# EAGLE library part RJ45 (library dpx-con-CUSTOM)
AMP connector
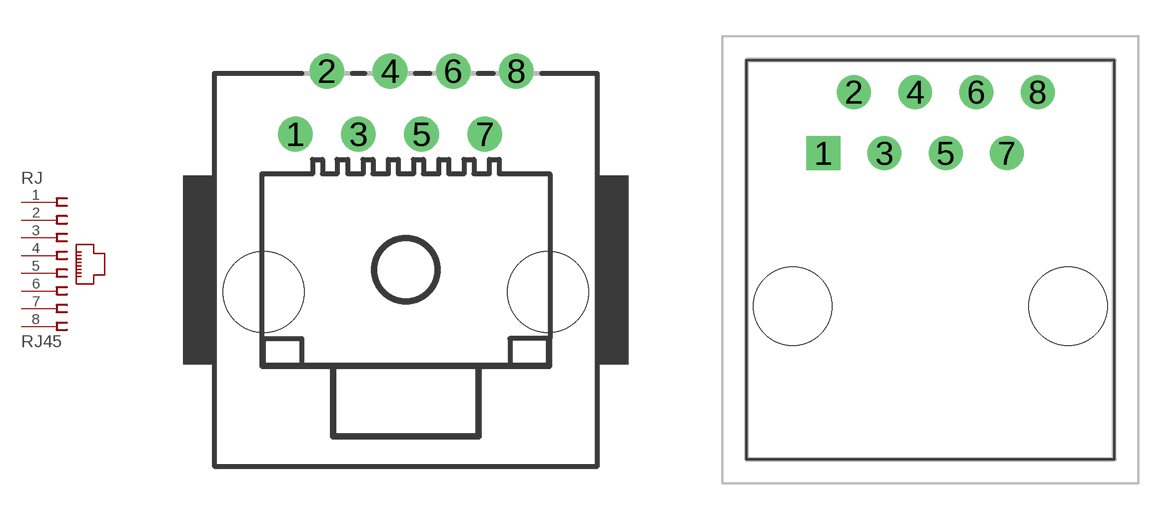
[diagram p25: symbol with the pads of RJ45-TE-V-520259-4; footprints RJ45-TE-V-520259-4, RJ45-AMP-RJE081880110H]

Designator prefix RJ

## RJ45520-V  [RJ45-TE-V-520259-4]
1  1  pas
2  2  pas
3  3  pas
4  4  pas
5  5  pas
6  6  pas
7  7  pas
8  8  pas

## RJ458011-V  [RJ45-AMP-RJE081880110H]
Pads as for RJ45-TE-V-520259-4

## RJ455080-R  [RJ45-AMP-RJHSE5080]
Pads as for RJ45-TE-V-520259-4

## RJ45555-R  [RJ45-TE-55551671]
Pads as for RJ45-TE-V-520259-4

## Footprint RJ45-TE-V-520259-4 (pad centres in mm)
Modular Jack with Panel Stops
drill 0.889: 1 -4.445,5.461; 2 -3.175,8.001; 3 -1.905,5.461; 4 -0.635,8.001; 5 0.635,5.461; 6 1.905,8.001; 7 3.175,5.461; 8 4.445,8.001
hole 3.251 at -5.715,-0.889
hole 3.251 at 5.715,-0.889

## Footprint RJ45-AMP-RJE081880110H (pad centres in mm)
RJE08-188-0110H-1
drill 0.9 pad 1.4 square: 1 0,0
drill 0.9 pad 1.4: 2 1.27,2.54; 3 2.54,0; 4 3.81,2.54; 5 5.08,0; 6 6.35,2.54; 7 7.62,0; 8 8.89,2.54
hole 3.25 at -1.27,-6.35
hole 3.25 at 10.16,-6.35

## Footprint RJ45-AMP-RJHSE5080 (pad centres in mm)
RJHSE-5080-1
drill 0.89 pad 1.446: 1 0,0; 2 -1.02,1.78; 3 -2.03,0; 4 -3.05,1.78; 5 -4.06,0; 6 -5.08,1.78; 7 -6.09,0; 8 -7.11,1.78
hole 3.25 at 2.8,-2.54
hole 3.25 at -9.9,-2.54

## Footprint RJ45-TE-55551671 (pad centres in mm)
5555167-1-1
drill 0.96 pad 1.493: 1 0,0; 2 1.27,2.54; 3 2.54,0; 4 3.81,2.54; 5 5.08,0; 6 6.35,2.54; 7 7.62,0; 8 8.89,2.54
hole 3.32 at -1.27,-6.35
hole 3.32 at 10.16,-6.35